# Altium footprint library SnapEDApcb.PcbLib: 1 footprints
Each footprint in its own frame and in the unit in brackets; x right, y up, seen from the top. Pads: shape width x height; smd on the part's side, far side on the other; paste and mask are expansions set on the pad; w line width, h text height; cw(c..) or ccw(c..) is an arc to the next point about the centre after c.
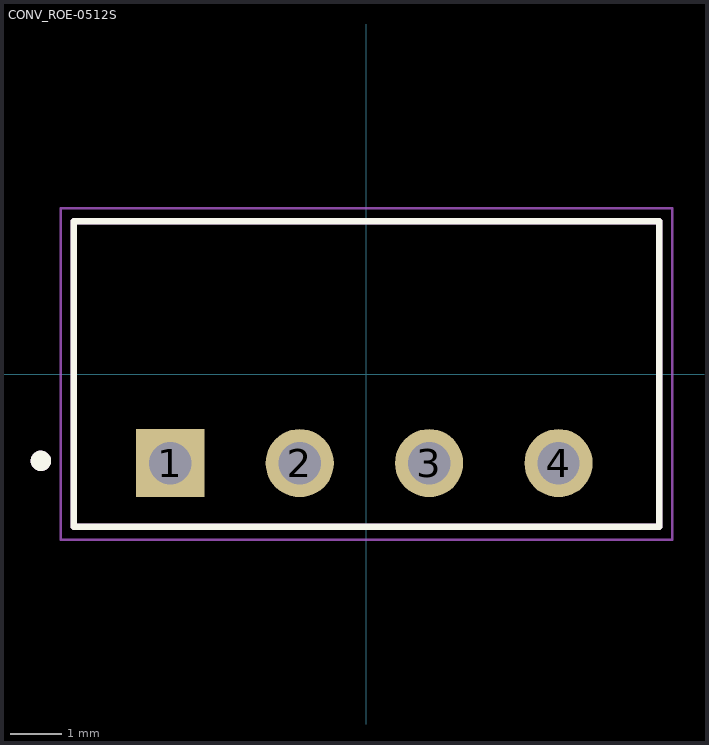
[diagram p0: the footprint, top view; thin cyan lines are the x and y axes]

## CONV_ROE-0512S [mm]
pads (4):
  rect 1.338x1.338 hole 0.83: 1(-3.85,-1.75)
  round 1.338 hole 0.83: 2(-1.31,-1.75) 3(1.23,-1.75) 4(3.77,-1.75)
Top Overlay:
  circle w0.2: c-6.39,-1.705 r0.1
  lines w0.127: -5.75,-3 -5.75,3 5.75,3 5.75,-3 -5.75,-3
Mechanical 13:
  circle w0.2: c-6.39,-1.705 r0.1
  lines w0.127: -5.75,-3 -5.75,3 5.75,3 5.75,-3 -5.75,-3
Mechanical 15:
  lines w0.05: -6,-3.25 -6,3.25 6,3.25 6,-3.25 -6,-3.25